# Altium schematic symbol library Altium-IC.SchLib: 158 symbols (part 2 of 2)
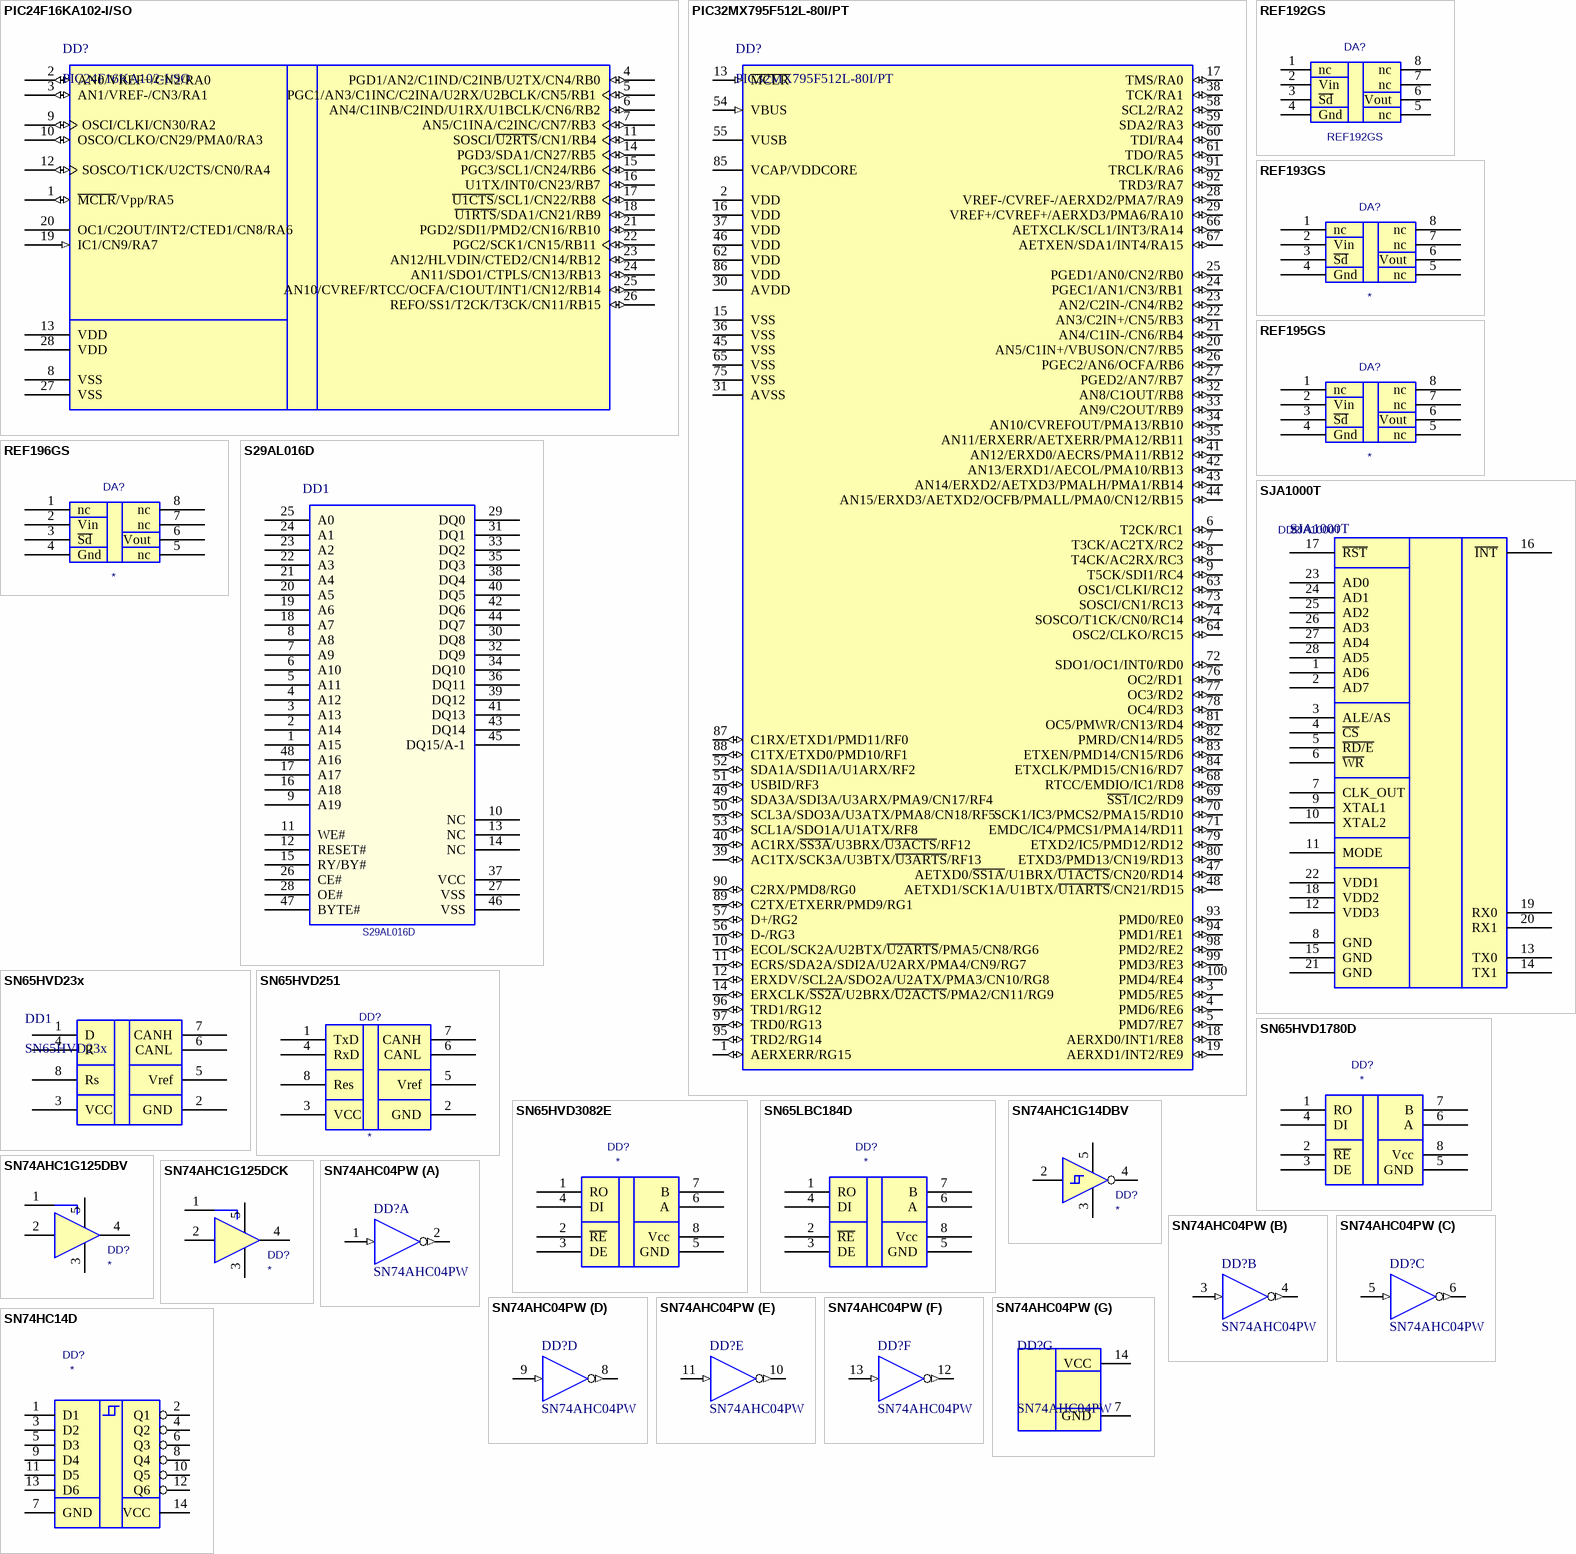
[diagram p11: symbols PIC24F16KA102-I/SO to SN74HC14D]

## PIC32MX795F512L-80I/PT
designator DD?
High Performance 80 MHz MIPS-Based 32-Bit Flash Microcontroller with USB, CAN and Ethernet, 512KB Program Memory, 100-pin TQFP, Industrial Temperature; FirstPublished: 2-Dec-2009; DatasheetVersion: revB, Nov-2009; PackageVersion: revBB, Aug-2009; PackageReference: TQFP-PT100; Publisher: Altium Limited; PackageDescription: 100-Lead Plastic Thin Quad Flatpack (PT) - 12x12x1mm Body, 2.00mm [TQFP]; Supplier 1: Digi-Key; Supplier Part Number 1: PIC32MX795F512L-80I/PT-ND; Supplier 2: Newark; Supplier Part Number 2: 25R8419; ComponentLink1Description: Datasheet; ComponentLink1URL: http://ww1.microchip.com/downloads/en/DeviceDoc/DS-61156B.pdf; ComponentLink2Description: Packaging Specification; ComponentLink2URL: http://ww1.microchip.com/downloads/en/PackagingSpec/en012702.pdf; ComponentLink3Description: Microchip.com Home; ComponentLink3URL: http://www.microchip.com/; Value: PIC32MX795F512L-80I/PT
footprint TQFP-PT100_N (Thin QFP, 100-Leads, Body 12x12mm, Pitch 0.4mm, IPC Medium Density)
footprint TQFP-PT100_L (Thin QFP, 100-Leads, Body 12x12mm, Pitch 0.4mm, IPC High Density)
pins: 1 AERXERR/RG15 (io), 2 VDD (power), 3 PMD5/RE5 (io), 4 PMD6/RE6 (io), 5 PMD7/RE7 (io), 6 T2CK/RC1 (io), 7 T3CK/AC2TX/RC2 (io), 8 T4CK/AC2RX/RC3 (io), 9 T5CK/SDI1/RC4 (io), 10 ECOL/SCK2A/U2BTX/~{U2ARTS}/PMA5/CN8/RG6 (io), 11 ECRS/SDA2A/SDI2A/U2ARX/PMA4/CN9/RG7 (io), 12 ERXDV/SCL2A/SDO2A/U2ATX/PMA3/CN10/RG8 (io), 13 ~{MCLR} (in), 14 ERXCLK/~{SS2A}/U2BRX/~{U2ACTS}/PMA2/CN11/RG9 (io), 15 VSS (power), 16 VDD (power), 17 TMS/RA0 (io), 18 AERXD0/INT1/RE8 (io), 19 AERXD1/INT2/RE9 (io), 20 AN5/C1IN+/VBUSON/CN7/RB5 (io), 21 AN4/C1IN-/CN6/RB4 (io), 22 AN3/C2IN+/CN5/RB3 (io), 23 AN2/C2IN-/CN4/RB2 (io), 24 PGEC1/AN1/CN3/RB1 (io), 25 PGED1/AN0/CN2/RB0 (io), 26 PGEC2/AN6/OCFA/RB6 (io), 27 PGED2/AN7/RB7 (io), 28 VREF-/CVREF-/AERXD2/PMA7/RA9 (io), 29 VREF+/CVREF+/AERXD3/PMA6/RA10 (io), 30 AVDD (power), 31 AVSS (power), 32 AN8/C1OUT/RB8 (io), 33 AN9/C2OUT/RB9 (io), 34 AN10/CVREFOUT/PMA13/RB10 (io), 35 AN11/ERXERR/AETXERR/PMA12/RB11 (io), 36 VSS (power), 37 VDD (power), 38 TCK/RA1 (io), 39 AC1TX/SCK3A/U3BTX/~{U3ARTS}/RF13 (io), 40 AC1RX/~{SS3A}/U3BRX/~{U3ACTS}/RF12 (io), 41 AN12/ERXD0/AECRS/PMA11/RB12 (io), 42 AN13/ERXD1/AECOL/PMA10/RB13 (io), 43 AN14/ERXD2/AETXD3/PMALH/PMA1/RB14 (io), 44 AN15/ERXD3/AETXD2/OCFB/PMALL/PMA0/CN12/RB15 (io), 45 VSS (power), 46 VDD (power), 47 AETXD0/~{SS1A}/U1BRX/~{U1ACTS}/CN20/RD14 (io), 48 AETXD1/SCK1A/U1BTX/~{U1ARTS}/CN21/RD15 (io), 49 SDA3A/SDI3A/U3ARX/PMA9/CN17/RF4 (io), 50 SCL3A/SDO3A/U3ATX/PMA8/CN18/RF5 (io), 51 USBID/RF3 (io), 52 SDA1A/SDI1A/U1ARX/RF2 (io), 53 SCL1A/SDO1A/U1ATX/RF8 (io), 54 VBUS (in), 55 VUSB (power), 56 D-/RG3 (io), 57 D+/RG2 (io), 58 SCL2/RA2 (io), 59 SDA2/RA3 (io), 60 TDI/RA4 (io), 61 TDO/RA5 (io), 62 VDD (power), 63 OSC1/CLKI/RC12 (io), 64 OSC2/CLKO/RC15 (io), 65 VSS (power), 66 AETXCLK/SCL1/INT3/RA14 (io), 67 AETXEN/SDA1/INT4/RA15 (io), 68 RTCC/EMDIO/IC1/RD8 (io), 69 ~{SS1}/IC2/RD9 (io), 70 SCK1/IC3/PMCS2/PMA15/RD10 (io), 71 EMDC/IC4/PMCS1/PMA14/RD11 (io), 72 SDO1/OC1/INT0/RD0 (io), 73 SOSCI/CN1/RC13 (io), 74 SOSCO/T1CK/CN0/RC14 (io), 75 VSS (power), 76 OC2/RD1 (io), 77 OC3/RD2 (io), 78 OC4/RD3 (io), 79 ETXD2/IC5/PMD12/RD12 (io), 80 ETXD3/PMD13/CN19/RD13 (io), 81 OC5/PMWR/CN13/RD4 (io), 82 PMRD/CN14/RD5 (io), 83 ETXEN/PMD14/CN15/RD6 (io), 84 ETXCLK/PMD15/CN16/RD7 (io), 85 VCAP/VDDCORE (power), 86 VDD (power), 87 C1RX/ETXD1/PMD11/RF0 (io), 88 C1TX/ETXD0/PMD10/RF1 (io), 89 C2TX/ETXERR/PMD9/RG1 (io), 90 C2RX/PMD8/RG0 (io), 91 TRCLK/RA6 (io), 92 TRD3/RA7 (io), 93 PMD0/RE0 (io), 94 PMD1/RE1 (io), 95 TRD2/RG14 (io), 96 TRD1/RG12 (io), 97 TRD0/RG13 (io), 98 PMD2/RE2 (io), 99 PMD3/RE3 (io), 100 PMD4/RE4 (io)

## REF192GS
designator DA?
Precision Micropower,  Low Dropout Voltage References; Value: REF192GS
footprint SO8
pins: 1 nc, 2 Vin, 3 ~{Sd}, 4 Gnd, 5 nc, 6 Vout, 7 nc, 8 nc

## REF193GS
designator DA?
REF193GS; Value: *
footprint SO8
pins: 1 nc, 2 Vin, 3 ~{Sd}, 4 Gnd, 5 nc, 6 Vout, 7 nc, 8 nc

## REF195GS
designator DA?
REF195GS; Value: *
footprint SO8
pins: 1 nc, 2 Vin, 3 ~{Sd}, 4 Gnd, 5 nc, 6 Vout, 7 nc, 8 nc

## REF196GS
designator DA?
Reference voltage 3.3v; Value: *
footprint SO8
pins: 1 nc, 2 Vin, 3 ~{Sd}, 4 Gnd, 5 nc, 6 Vout, 7 nc, 8 nc

## S29AL016D
designator DD1
16 Megabit (2 M x 8-Bit/1 M x 16-Bit)   CMOS 3.0 Volt-only Boot Sector Flash Memory; Value: S29AL016D
footprint TSSOP48N (TSSOP, 48-Leads, Body 12,0x18,4mm (max), Pitch 0,50mm, IPC Medium Density)
pins: 1 A15, 2 A14, 3 A13, 4 A12, 5 A11, 6 A10, 7 A9, 8 A8, 9 A19, 10 NC, 11 WE#, 12 RESET#, 13 NC, 14 NC, 15 RY/BY#, 16 A18, 17 A17, 18 A7, 19 A6, 20 A5, 21 A4, 22 A3, 23 A2, 24 A1, 25 A0, 26 CE#, 27 VSS, 28 OE#, 29 DQ0, 30 DQ8, 31 DQ1, 32 DQ9, 33 DQ2, 34 DQ10, 35 DQ3, 36 DQ11, 37 VCC, 38 DQ4, 39 DQ12, 40 DQ5, 41 DQ13, 42 DQ6, 43 DQ14, 44 DQ7, 45 DQ15/A-1, 46 VSS, 47 BYTE#, 48 A16

## SJA1000T
designator DD?
Value: SJA1000T
footprint SOIC127P750-28_N (28-Pin Small Outline Integrated Circuit 1.27 mm Pitch, IPC Medium Density)
pins: 1 AD6, 2 AD7, 3 ALE/AS, 4 ~{CS}, 5 ~{RD/E}, 6 ~{WR}, 7 CLK_OUT, 8 GND, 9 XTAL1, 10 XTAL2, 11 MODE, 12 VDD3, 13 TX0, 14 TX1, 15 GND, 16 ~{INT}, 17 ~{RST}, 18 VDD2, 19 RX0, 20 RX1, 21 GND, 22 VDD1, 23 AD0, 24 AD1, 25 AD2, 26 AD3, 27 AD4, 28 AD5

## SN65HVD23x
designator DD1
3.3-V CAN Bus Transceiver
footprint SO8 (SOIC, 8-Leads, Body 4.9x3.9mm, Pitch 1.27mm, IPC High Density)
pins: 1 D, 2 GND, 3 VCC, 4 R, 5 Vref, 6 CANL, 7 CANH, 8 Rs

## SN65HVD251
designator DD?
SN65HVD251; Value: *
footprint SO8
pins: 1 TxD, 2 GND, 3 VCC, 4 RxD, 5 Vref, 6 CANL, 7 CANH, 8 Res

## SN65HVD1780D
designator DD?
SN65HVD1780DR; Value: *
footprint SO8
pins: 1 RO, 2 ~{RE}, 3 DE, 4 DI, 5 GND, 6 A, 7 B, 8 Vcc

## SN65HVD3082E
designator DD?
SN65HVD3082E; Value: *
footprint SO8
pins: 1 RO, 2 ~{RE}, 3 DE, 4 DI, 5 GND, 6 A, 7 B, 8 Vcc

## SN65LBC184D
designator DD?
SN65LBC184D; Value: *
footprint SO8
pins: 1 RO, 2 ~{RE}, 3 DE, 4 DI, 5 GND, 6 A, 7 B, 8 Vcc

## SN74AHC1G14DBV
designator DD?
Single Schmitt Trigger Inverter Gate
footprint SOT-23-5
pins: 2 A, 3 Gnd, 4 Y, 5 Vcc

## SN74AHC1G125DBV
designator DD?
Single Bus Bufer Gate
footprint SOT-23-5
pins: 1 ~{OE}, 2 A, 3 Gnd, 4 Y, 5 Vcc

## SN74AHC1G125DCK
designator DD?
Single Bus Bufer Gate
footprint SC70-5 (SOT-353/SC-88A; 5 Leads; Body 2.2 x 2.4 mm, inc. leads (LxW max))
pins: 1 ~{OE}, 2 A, 3 Gnd, 4 Y, 5 Vcc

## SN74AHC04PW
designator DD?
Hex Inverter; Value: *
footprint TSSOP14 (TSSOP, 14-Leads, Body 5x4.4mm, Pitch 0.65mm, IPC High Density)
part A pins: 1 A (in), 2 Y (out)
part B pins: 3 A (in), 4 Y (out)
part C pins: 5 A (in), 6 Y (out)
part D pins: 8 Y (out), 9 A (in)
part E pins: 10 Y (out), 11 A (in)
part F pins: 12 Y (out), 13 A (in)
part G pins: 7 GND (power), 14 VCC (power)

## SN74HC14D
designator DD?
Hex inverting Schmitt trigger
footprint SO14
pins: 1 D1, 2 Q1, 3 D2, 4 Q2, 5 D3, 6 Q3, 7 GND, 8 Q4, 9 D4, 10 Q5, 11 D5, 12 Q6, 13 D6, 14 VCC

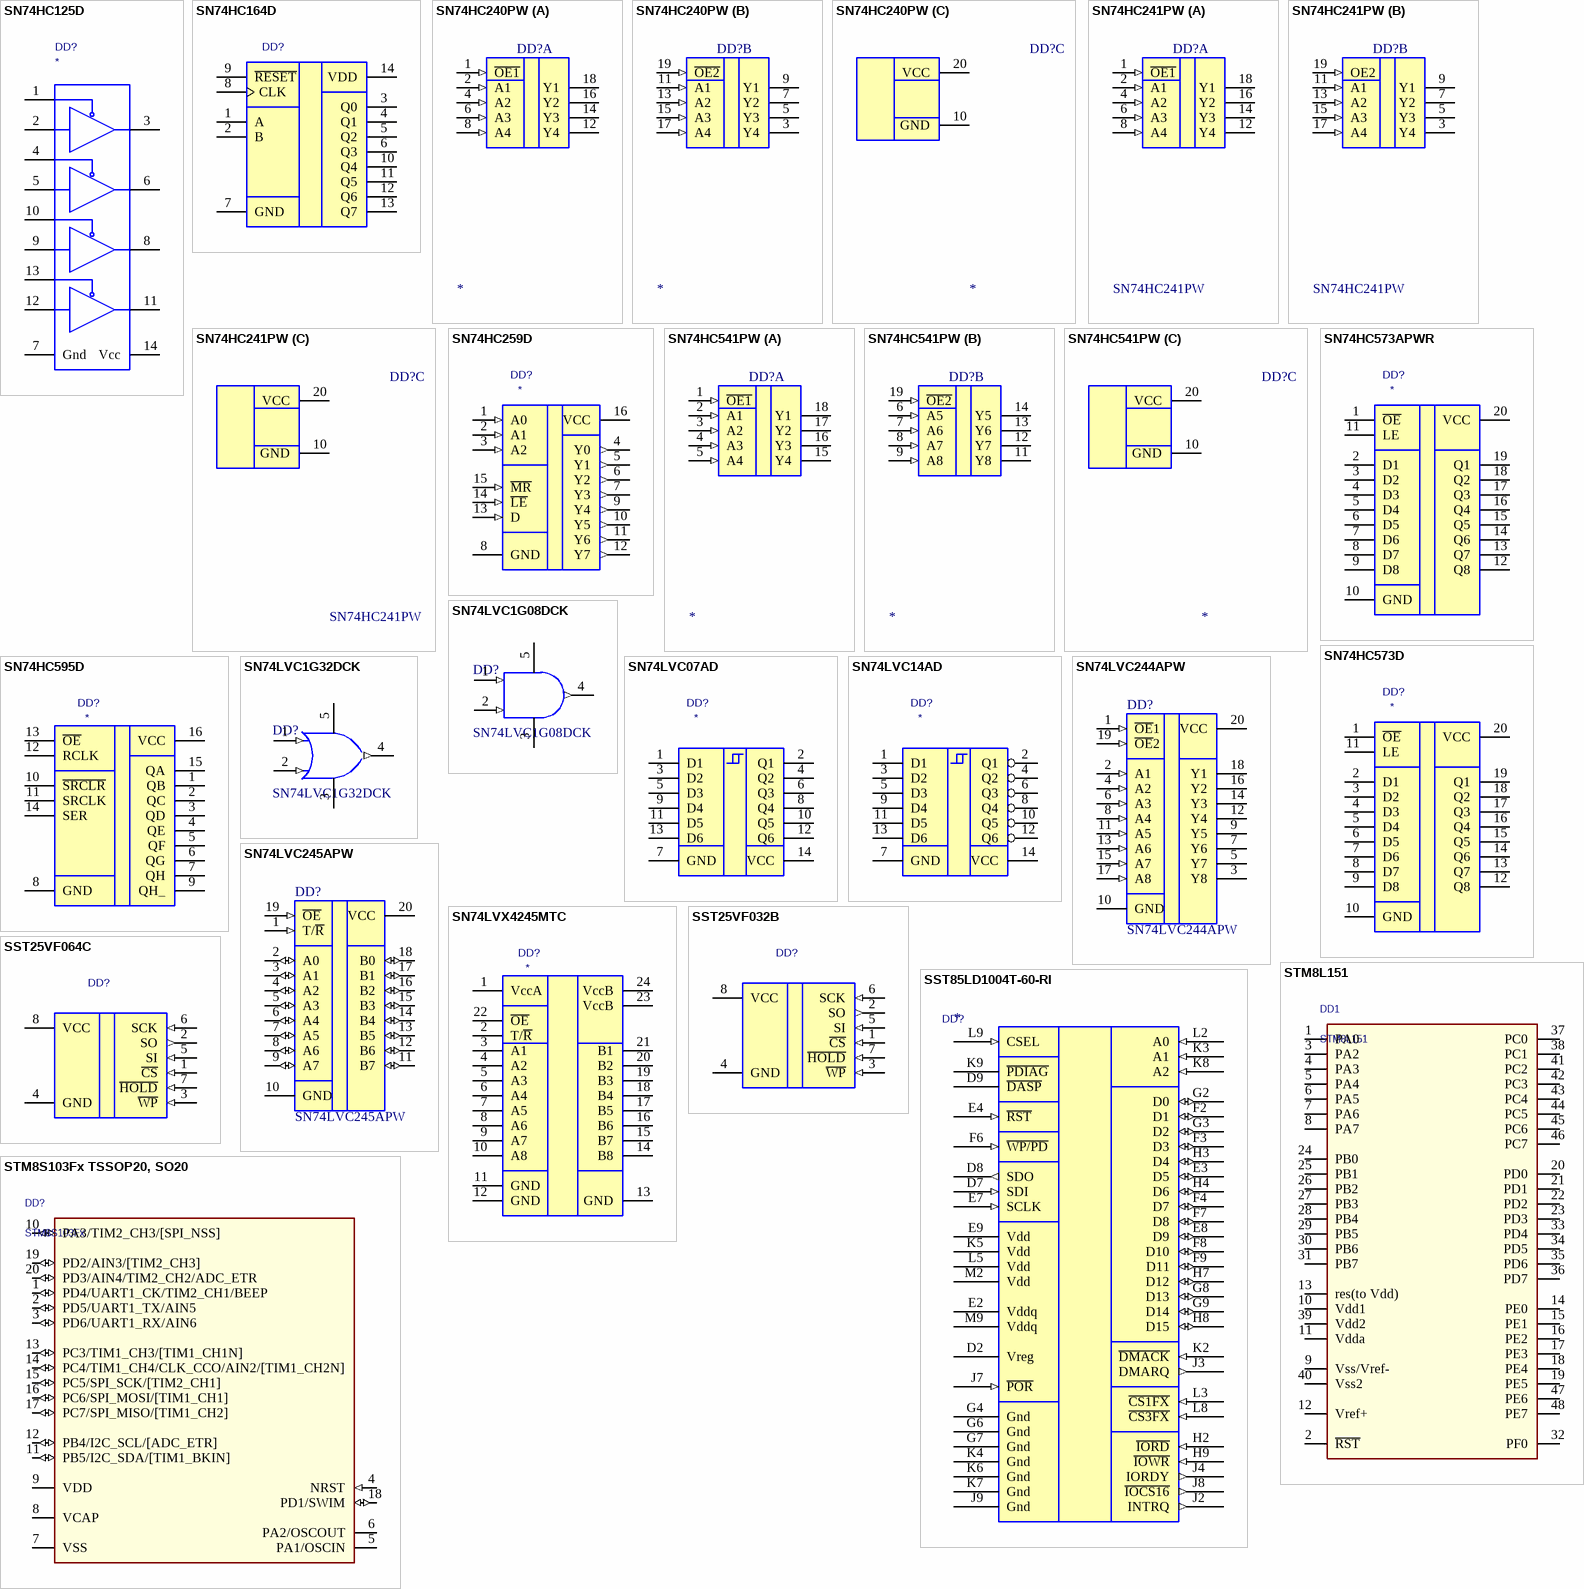
[diagram p8: symbols SN74HC125D to STM8S103Fx TSSOP20, SO20]

## SN74HC125D
designator DD?
SN74HC125D; Value: *
footprint SO14
pins: 1 ~{OE}, 2 A, 3 Y, 4 ~{OE}, 5 A, 6 Y, 7 Gnd, 8 Y, 9 A, 10 ~{OE}, 11 Y, 12 A, 13 ~{OE}, 14 Vcc

## SN74HC164D
designator DD?  (value not drawn)
SN74HC164D; Code_JEDEC: MS-012-AB; Code_IPC: SO14; Value: *
footprint SO14
pins: 1 A, 2 B, 3 Q0, 4 Q1, 5 Q2, 6 Q3, 7 GND, 8 CLK, 9 ~{RESET}, 10 Q4, 11 Q5, 12 Q6, 13 Q7, 14 VDD

## SN74HC240PW
designator DD?
Octal Buffer/Driver with 3-State Outputs
footprint TSSOP20
part A pins: 1 ~{OE1} (in), 2 A1 (in), 4 A2 (in), 6 A3 (in), 8 A4 (in), 12 Y4 (hiz), 14 Y3 (hiz), 16 Y2 (hiz), 18 Y1 (hiz)
part B pins: 3 Y4 (hiz), 5 Y3 (hiz), 7 Y2 (hiz), 9 Y1 (hiz), 11 A1 (in), 13 A2 (in), 15 A3 (in), 17 A4 (in), 19 ~{OE2} (in)
part C pins: 10 GND (power), 20 VCC (power)

## SN74HC241PW
designator DD?
Octal Buffer/Driver with 3-State Outputs; Value: SN74HC241PW
footprint TSSOP20
part A pins: 1 ~{OE1} (in), 2 A1 (in), 4 A2 (in), 6 A3 (in), 8 A4 (in), 12 Y4 (hiz), 14 Y3 (hiz), 16 Y2 (hiz), 18 Y1 (hiz)
part B pins: 3 Y4 (hiz), 5 Y3 (hiz), 7 Y2 (hiz), 9 Y1 (hiz), 11 A1 (in), 13 A2 (in), 15 A3 (in), 17 A4 (in), 19 OE2 (in)
part C pins: 10 GND (power), 20 VCC (power)

## SN74HC259D
designator DD?
SN74HC259D; Value: *
footprint SO-G16
pins: 1 A0 (in), 2 A1 (in), 3 A2 (in), 4 Y0 (out), 5 Y1 (out), 6 Y2 (out), 7 Y3 (out), 8 GND (power), 9 Y4 (out), 10 Y5 (out), 11 Y6 (out), 12 Y7 (out), 13 D (in), 14 ~{LE} (in), 15 ~{MR} (in), 16 VCC (power)

## SN74HC541PW
designator DD?
Octal Buffer/Driver with 3-State Outputs; PackageDescription: 20-Pin Thin Small Outline Package 0.65 mm Pitch; Value: *
footprint TSSOP20
part A pins: 1 ~{OE1} (in), 2 A1 (in), 3 A2 (in), 4 A3 (in), 5 A4 (in), 15 Y4 (hiz), 16 Y3 (hiz), 17 Y2 (hiz), 18 Y1 (hiz)
part B pins: 6 A5 (in), 7 A6 (in), 8 A7 (in), 9 A8 (in), 11 Y8 (hiz), 12 Y7 (hiz), 13 Y6 (hiz), 14 Y5 (hiz), 19 ~{OE2} (in)
part C pins: 10 GND (power), 20 VCC (power)

## SN74HC573APWR
designator DD?
SN74HC573APWR; Value: *; PackageDescription: 20-Pin Thin Small Outline Package 0.65 mm Pitch
footprint TSSOP20
pins: 1 ~{OE}, 2 D1, 3 D2, 4 D3, 5 D4, 6 D5, 7 D6, 8 D7, 9 D8, 10 GND, 11 LE, 12 Q8, 13 Q7, 14 Q6, 15 Q5, 16 Q4, 17 Q3, 18 Q2, 19 Q1, 20 VCC

## SN74HC573D
designator DD?
SN74HC573D; Value: *
pins: 1 ~{OE}, 2 D1, 3 D2, 4 D3, 5 D4, 6 D5, 7 D6, 8 D7, 9 D8, 10 GND, 11 LE, 12 Q8, 13 Q7, 14 Q6, 15 Q5, 16 Q4, 17 Q3, 18 Q2, 19 Q1, 20 VCC

## SN74HC595D
designator DD?
SN74HC595D; Value: *
footprint SO-G16
pins: 1 QB, 2 QC, 3 QD, 4 QE, 5 QF, 6 QG, 7 QH, 8 GND, 9 QH_, 10 ~{SRCLR}, 11 SRCLK, 12 RCLK, 13 ~{OE}, 14 SER, 15 QA, 16 VCC

## SN74LVC1G08DCK
designator DD?
Single 2-Input Positive-AND Gate
footprint SC70-5 (SOT-353/SC-88A; 5 Leads; Body 2.2 x 2.4 mm, inc. leads (LxW max))
pins: 1 A (in), 2 B (in), 3 Gnd (power), 4 Y (out), 5 Vcc (power)

## SN74LVC1G32DCK
designator DD?
Single 2-Input Positive-OR Gate
footprint SC70-5 (SOT-353/SC-88A; 5 Leads; Body 2.2 x 2.4 mm, inc. leads (LxW max))
pins: 1 A (in), 2 B (in), 3 Gnd (power), 4 Y (out), 5 Vcc (power)

## SN74LVC07AD
designator DD?
Hex inverting Schmitt trigger, Open collector
footprint SO14
pins: 1 D1, 2 Q1, 3 D2, 4 Q2, 5 D3, 6 Q3, 7 GND, 8 Q4, 9 D4, 10 Q5, 11 D5, 12 Q6, 13 D6, 14 VCC

## SN74LVC14AD
designator DD?
Hex inverting Schmitt trigger
footprint SO14
pins: 1 D1, 2 Q1, 3 D2, 4 Q2, 5 D3, 6 Q3, 7 GND, 8 Q4, 9 D4, 10 Q5, 11 D5, 12 Q6, 13 D6, 14 VCC

## SN74LVC244APW
designator DD?
Octal Buffer/Driver with 3-State Outputs; Value: *
footprint TSSOP20 (TSOP, 20-Leads, Body 6.5x4.4mm, Pitch 0.65mm, IPC High Density)
pins: 1 ~{OE}1 (in), 2 A1 (in), 3 Y8 (hiz), 4 A2 (in), 5 Y7 (hiz), 6 A3 (in), 7 Y6 (hiz), 8 A4 (in), 9 Y5 (hiz), 10 GND (power), 11 A5 (in), 12 Y4 (hiz), 13 A6 (in), 14 Y3 (hiz), 15 A7 (in), 16 Y2 (hiz), 17 A8 (in), 18 Y1 (hiz), 19 ~{OE}2 (in), 20 VCC (power)

## SN74LVC245APW
designator DD?
Octal Bus Transceiver with 3-State Outputs; Value: *
footprint TSSOP20 (TSOP, 20-Leads, Body 6.5x4.4mm, Pitch 0.65mm, IPC High Density)
pins: 1 T/~{R} (in), 2 A0 (io), 3 A1 (io), 4 A2 (io), 5 A3 (io), 6 A4 (io), 7 A5 (io), 8 A6 (io), 9 A7 (io), 10 GND (power), 11 B7 (io), 12 B6 (io), 13 B5 (io), 14 B4 (io), 15 B3 (io), 16 B2 (io), 17 B1 (io), 18 B0 (io), 19 ~{OE} (in), 20 VCC (power)

## SN74LVX4245MTC
designator DD?
SN74LVX4245MTC; Value: *
footprint TSSOP24
pins: 1 VccA, 2 T/~{R}, 3 A1, 4 A2, 5 A3, 6 A4, 7 A5, 8 A6, 9 A7, 10 A8, 11 GND, 12 GND, 13 GND, 14 B8, 15 B7, 16 B6, 17 B5, 18 B4, 19 B3, 20 B2, 21 B1, 22 ~{OE}, 23 VccB, 24 VccB

## SST25VF032B
designator DD?  (value not drawn)
32 Mbit SPI Serial Flash; Value: *
footprint SO8-2_L (8-Pin Small Outline Package 200mil, 1.27 mm Pitch, IPC High Density)
footprint SO8_2_N (8-Pin Small Outline Package 200mil, 1.27 mm Pitch, IPC Medium Density)
pins: 1 ~{CS} (in), 2 SO (out), 3 ~{WP} (in), 4 GND (power), 5 SI (in), 6 SCK (in), 7 ~{HOLD} (in), 8 VCC (power)

## SST25VF064C
designator DD?  (value not drawn)
64 Mbit SPI Serial Flash; Value: *
footprint SO8-2_L (8-Pin Small Outline Package 200mil, 1.27 mm Pitch, IPC High Density)
footprint SO8_2_N (8-Pin Small Outline Package 200mil, 1.27 mm Pitch, IPC Medium Density)
pins: 1 ~{CS} (in), 2 SO (out), 3 ~{WP} (in), 4 GND (power), 5 SI (in), 6 SCK (in), 7 ~{HOLD} (in), 8 VCC (power)

## SST85LD1004T-60-RI
designator DD?
4 GByte NANDrive with ATA/IDE Bus Interface; Value: *
footprint LBGA100P12X24-91 (Low Profile BGA, 91-Leads, Body 12x24mm, Pitch 1mm)
pins: D2 Vreg (power), D7 SDI (in), D8 SDO (out), D9 ~{DASP}, E2 Vddq (power), E3 D5 (io), E4 ~{RST} (in), E7 SCLK (in), E8 D9 (io), E9 Vdd (power), F2 D1 (io), F3 D3 (io), F4 D7 (io), F6 ~{WP/PD} (in), F7 D8 (io), F8 D10 (io), F9 D11 (io), G2 D0 (io), G3 D2 (io), G4 Gnd (power), G6 Gnd (power), G7 Gnd (power), G8 D13 (io), G9 D14 (io), H2 ~{IORD} (in), H3 D4 (io), H4 D6 (io), H7 D12 (io), H8 D15 (io), H9 ~{IOWR} (in), J2 INTRQ (out), J3 DMARQ (out), J4 IORDY (out), J7 ~{POR} (in), J8 ~{IOCS16} (out), J9 Gnd (power), K2 ~{DMACK} (in), K3 A1 (in), K4 Gnd (power), K5 Vdd (power), K6 Gnd (power), K7 Gnd (power), K8 A2 (in), K9 ~{PDIAG}, L2 A0 (in), L3 ~{CS1FX} (in), L5 Vdd (power), L8 ~{CS3FX} (in), L9 CSEL (in), M2 Vdd (power), M9 Vddq (power)

## STM8L151
designator DD1
8-bit microcontroller Low-power
footprint LQFP48_N (Thin QFP, 48-Leads, Body 7x7mm, Pitch 0.5mm, IPC Medium Density)
pins: 1 PA0, 2 ~{RST}, 3 PA2, 4 PA3, 5 PA4, 6 PA5, 7 PA6, 8 PA7, 9 Vss/Vref-, 10 Vdd1, 11 Vdda, 12 Vref+, 13 res(to Vdd), 14 PE0, 15 PE1, 16 PE2, 17 PE3, 18 PE4, 19 PE5, 20 PD0, 21 PD1, 22 PD2, 23 PD3, 24 PB0, 25 PB1, 26 PB2, 27 PB3, 28 PB4, 29 PB5, 30 PB6, 31 PB7, 32 PF0, 33 PD4, 34 PD5, 35 PD6, 36 PD7, 37 PC0, 38 PC1, 39 Vdd2, 40 Vss2, 41 PC2, 42 PC3, 43 PC4, 44 PC5, 45 PC6, 46 PC7, 47 PE6, 48 PE7

## STM8S103Fx TSSOP20, SO20
designator DD?, comment STM8S103Fx
STM8 8-bit microcontroller
footprint TSSOP20 (TSOP, 20-Leads, Body 6.5x4.4mm, Pitch 0.65mm, IPC High Density)
pins: 1 PD4/UART1_CK/TIM2_CH1/BEEP (io), 2 PD5/UART1_TX/AIN5 (io), 3 PD6/UART1_RX/AIN6 (io), 4 NRST (in), 5 PA1/OSCIN, 6 PA2/OSCOUT, 7 VSS (power), 8 VCAP, 9 VDD (power), 10 PA3/TIM2_CH3/[SPI_NSS] (io), 11 PB5/I2C_SDA/[TIM1_BKIN] (io), 12 PB4/I2C_SCL/[ADC_ETR] (io), 13 PC3/TIM1_CH3/[TIM1_CH1N] (io), 14 PC4/TIM1_CH4/CLK_CCO/AIN2/[TIM1_CH2N] (io), 15 PC5/SPI_SCK/[TIM2_CH1] (io), 16 PC6/SPI_MOSI/[TIM1_CH1] (io), 17 PC7/SPI_MISO/[TIM1_CH2] (io), 18 PD1/SWIM (io), 19 PD2/AIN3/[TIM2_CH3] (io), 20 PD3/AIN4/TIM2_CH2/ADC_ETR (io)

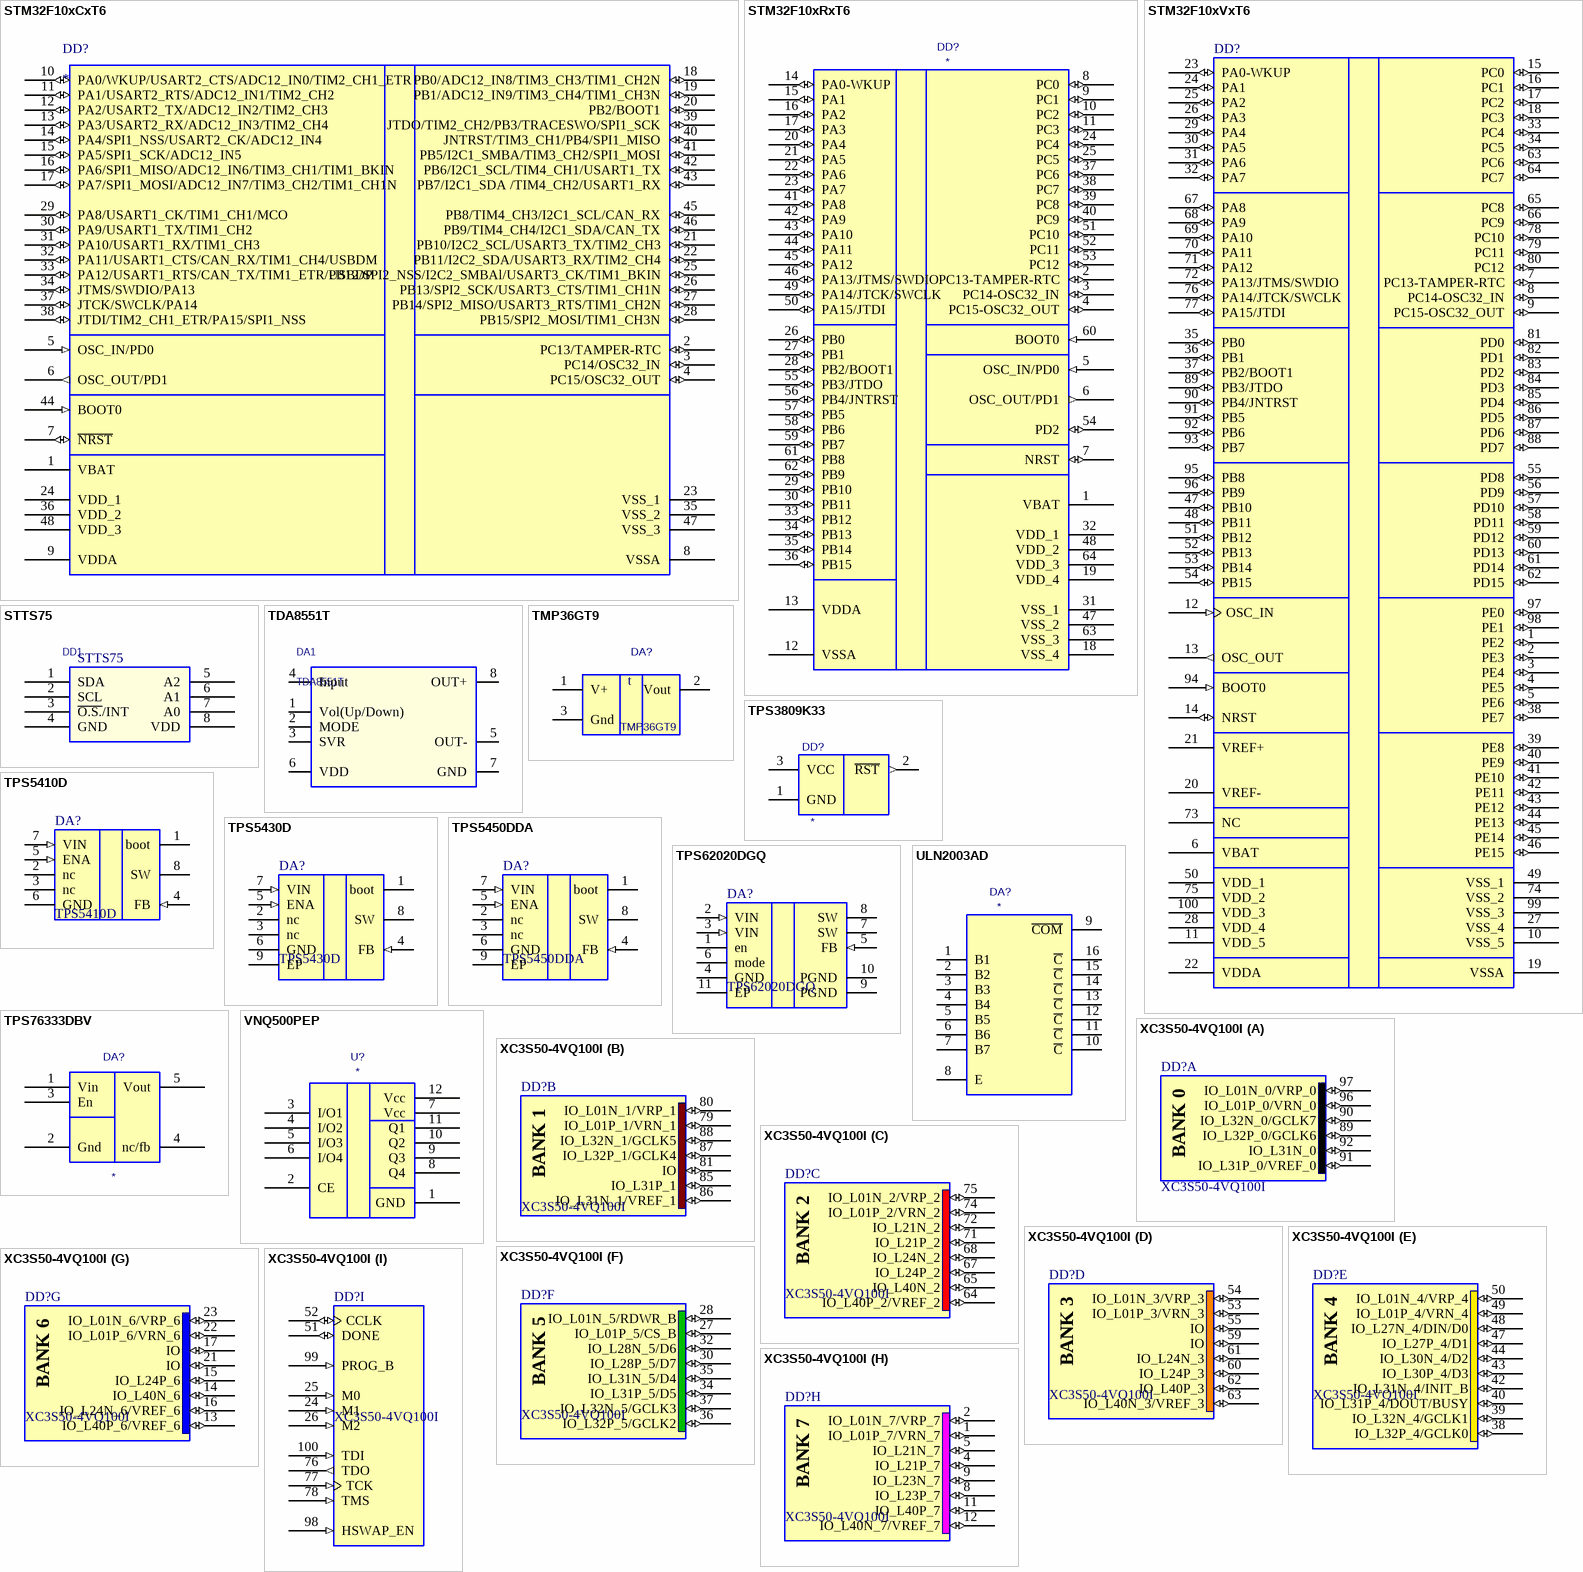
[diagram p9: symbols STM32F10xCxT6 to XC3S50-4VQ100I]

## STM32F10xCxT6
designator DD?
STM32 ARM-based 32-bit MCU, 48-pin LQFP, Industrial Temperature; Value: *
footprint LQFP48_N (Thin QFP, 48-Leads, Body 7x7mm, Pitch 0.5mm, IPC Medium Density)
footprint LQFP48_L (Thin QFP, 48-Leads, Body 7x7mm, Pitch 0.5mm, IPC High Density)
pins: 1 VBAT (power), 2 PC13/TAMPER-RTC (io), 3 PC14/OSC32_IN (io), 4 PC15/OSC32_OUT (io), 5 OSC_IN/PD0 (in), 6 OSC_OUT/PD1 (out), 7 ~{NRST} (io), 8 VSSA (power), 9 VDDA (power), 10 PA0/WKUP/USART2_CTS/ADC12_IN0/TIM2_CH1_ETR (io), 11 PA1/USART2_RTS/ADC12_IN1/TIM2_CH2 (io), 12 PA2/USART2_TX/ADC12_IN2/TIM2_CH3 (io), 13 PA3/USART2_RX/ADC12_IN3/TIM2_CH4 (io), 14 PA4/SPI1_NSS/USART2_CK/ADC12_IN4 (io), 15 PA5/SPI1_SCK/ADC12_IN5 (io), 16 PA6/SPI1_MISO/ADC12_IN6/TIM3_CH1/TIM1_BKIN (io), 17 PA7/SPI1_MOSI/ADC12_IN7/TIM3_CH2/TIM1_CH1N (io), 18 PB0/ADC12_IN8/TIM3_CH3/TIM1_CH2N (io), 19 PB1/ADC12_IN9/TIM3_CH4/TIM1_CH3N (io), 20 PB2/BOOT1 (io), 21 PB10/I2C2_SCL/USART3_TX/TIM2_CH3 (io), 22 PB11/I2C2_SDA/USART3_RX/TIM2_CH4 (io), 23 VSS_1 (power), 24 VDD_1 (power), 25 PB12/SPI2_NSS/I2C2_SMBAl/USART3_CK/TIM1_BKIN (io), 26 PB13/SPI2_SCK/USART3_CTS/TIM1_CH1N (io), 27 PB14/SPI2_MISO/USART3_RTS/TIM1_CH2N (io), 28 PB15/SPI2_MOSI/TIM1_CH3N (io), 29 PA8/USART1_CK/TIM1_CH1/MCO (io), 30 PA9/USART1_TX/TIM1_CH2 (io), 31 PA10/USART1_RX/TIM1_CH3 (io), 32 PA11/USART1_CTS/CAN_RX/TIM1_CH4/USBDM (io), 33 PA12/USART1_RTS/CAN_TX/TIM1_ETR/USBDP (io), 34 JTMS/SWDIO/PA13 (io), 35 VSS_2 (power), 36 VDD_2 (power), 37 JTCK/SWCLK/PA14 (io), 38 JTDI/TIM2_CH1_ETR/PA15/SPI1_NSS (io), 39 JTDO/TIM2_CH2/PB3/TRACESWO/SPI1_SCK (io), 40 JNTRST/TIM3_CH1/PB4/SPI1_MISO (io), 41 PB5/I2C1_SMBA/TIM3_CH2/SPI1_MOSI (io), 42 PB6/I2C1_SCL/TIM4_CH1/USART1_TX (io), 43 PB7/I2C1_SDA /TIM4_CH2/USART1_RX (io), 44 BOOT0 (in), 45 PB8/TIM4_CH3/I2C1_SCL/CAN_RX (io), 46 PB9/TIM4_CH4/I2C1_SDA/CAN_TX (io), 47 VSS_3 (power), 48 VDD_3 (power)

## STM32F10xRxT6
designator DD?
STM32 ARM-based 32-bit MCU; Value: *
footprint LQFP64_L (Thin QFP, 64-Leads, Body 10x10mm, Pitch 0.5mm, IPC High Density)
pins: 1 VBAT (power), 2 PC13-TAMPER-RTC (io), 3 PC14-OSC32_IN (io), 4 PC15-OSC32_OUT (io), 5 OSC_IN/PD0 (in), 6 OSC_OUT/PD1 (out), 7 NRST (io), 8 PC0 (io), 9 PC1 (io), 10 PC2 (io), 11 PC3 (io), 12 VSSA (power), 13 VDDA (power), 14 PA0-WKUP (io), 15 PA1 (io), 16 PA2 (io), 17 PA3 (io), 18 VSS_4 (power), 19 VDD_4 (power), 20 PA4 (io), 21 PA5 (io), 22 PA6 (io), 23 PA7 (io), 24 PC4 (io), 25 PC5 (io), 26 PB0 (io), 27 PB1 (io), 28 PB2/BOOT1 (io), 29 PB10 (io), 30 PB11 (io), 31 VSS_1 (power), 32 VDD_1 (power), 33 PB12 (io), 34 PB13 (io), 35 PB14 (io), 36 PB15 (io), 37 PC6 (io), 38 PC7 (io), 39 PC8 (io), 40 PC9 (io), 41 PA8 (io), 42 PA9 (io), 43 PA10 (io), 44 PA11 (io), 45 PA12 (io), 46 PA13/JTMS/SWDIO (io), 47 VSS_2 (power), 48 VDD_2 (power), 49 PA14/JTCK/SWCLK (io), 50 PA15/JTDI (io), 51 PC10 (io), 52 PC11 (io), 53 PC12 (io), 54 PD2 (io), 55 PB3/JTDO (io), 56 PB4/JNTRST (io), 57 PB5 (io), 58 PB6 (io), 59 PB7 (io), 60 BOOT0 (in), 61 PB8 (io), 62 PB9 (io), 63 VSS_3 (power), 64 VDD_3 (power)

## STM32F10xVxT6
designator DD?
STM32 ARM-based 32-bit MCU; Value: *
footprint LQFP-100_L (Thin QFP, 100-Leads, Body 14x14mm, Pitch 0.5mm, IPC High Density)
pins: 1 PE2 (io), 2 PE3 (io), 3 PE4 (io), 4 PE5 (io), 5 PE6 (io), 6 VBAT (power), 7 PC13-TAMPER-RTC (io), 8 PC14-OSC32_IN (io), 9 PC15-OSC32_OUT (io), 10 VSS_5 (power), 11 VDD_5 (power), 12 OSC_IN (in), 13 OSC_OUT (out), 14 NRST (io), 15 PC0 (io), 16 PC1 (io), 17 PC2 (io), 18 PC3 (io), 19 VSSA (power), 20 VREF- (power), 21 VREF+ (power), 22 VDDA (power), 23 PA0-WKUP (io), 24 PA1 (io), 25 PA2 (io), 26 PA3 (io), 27 VSS_4 (power), 28 VDD_4 (power), 29 PA4 (io), 30 PA5 (io), 31 PA6 (io), 32 PA7 (io), 33 PC4 (io), 34 PC5 (io), 35 PB0 (io), 36 PB1 (io), 37 PB2/BOOT1 (io), 38 PE7 (io), 39 PE8 (io), 40 PE9 (io), 41 PE10 (io), 42 PE11 (io), 43 PE12 (io), 44 PE13 (io), 45 PE14 (io), 46 PE15 (io), 47 PB10 (io), 48 PB11 (io), 49 VSS_1 (power), 50 VDD_1 (power), 51 PB12 (io), 52 PB13 (io), 53 PB14 (io), 54 PB15 (io), 55 PD8 (io), 56 PD9 (io), 57 PD10 (io), 58 PD11 (io), 59 PD12 (io), 60 PD13 (io), 61 PD14 (io), 62 PD15 (io), 63 PC6 (io), 64 PC7 (io), 65 PC8 (io), 66 PC9 (io), 67 PA8 (io), 68 PA9 (io), 69 PA10 (io), 70 PA11 (io), 71 PA12 (io), 72 PA13/JTMS/SWDIO (io), 73 NC, 74 VSS_2 (power), 75 VDD_2 (power), 76 PA14/JTCK/SWCLK (io), 77 PA15/JTDI (io), 78 PC10 (io), 79 PC11 (io), 80 PC12 (io), 81 PD0 (io), 82 PD1 (io), 83 PD2 (io), 84 PD3 (io), 85 PD4 (io), 86 PD5 (io), 87 PD6 (io), 88 PD7 (io), 89 PB3/JTDO (io), 90 PB4/JNTRST (io), 91 PB5 (io), 92 PB6 (io), 93 PB7 (io), 94 BOOT0 (in), 95 PB8 (io), 96 PB9 (io), 97 PE0 (io), 98 PE1 (io), 99 VSS_3 (power), 100 VDD_3 (power)

## STTS75
designator DD1
Digital temperature sensor and thermal watchdog; Value: STTS75
footprint TSSOP8 (TSOP, 8-Leads, Body 3x3mm, Pitch 0.65mm, IPC High Density)
pins: 1 SDA, 2 SCL, 3 ~{O.S.}/INT, 4 GND, 5 A2, 6 A1, 7 A0, 8 VDD

## TDA8551T
designator DA1
2.7V, 1W BTL audio amplifier
footprint SO8_2_N (8-Pin Small Outline Package 200mil, 1.27 mm Pitch, IPC Medium Density)
pins: 1 Vol(Up/Down), 2 MODE, 3 SVR, 4 Input, 5 OUT-, 6 VDD, 7 GND, 8 OUT+

## TMP36GT9
designator DA?
Low Voltage Temperature Sensors; Value: TMP36GT9
footprint TO-92 (Modifined, 3x1.524mm)
pins: 1 V+, 2 Vout, 3 Gnd
text: t

## TPS3809K33
designator DD?
TPS3809K33; Value: *
footprint SOT-23
pins: 1 GND, 2 ~{RST} (out), 3 VCC

## TPS5410D
designator DA?
Step-Down, Wide Input Range, 1A, Voltage Regulator
footprint SO8
pins: 1 boot, 2 nc, 3 nc, 4 FB (in), 5 ENA (in), 6 GND (power), 7 VIN (in), 8 SW

## TPS5430D
designator DA?
Step-Down, Wide Input Range, 3A, Voltage Regulator
footprint SO8-H (SOIC with Exposed pad, 8-Leads, Body 4.9x3.9mm, Pitch 1.27mm, IPC High Density)
pins: 1 boot, 2 nc, 3 nc, 4 FB (in), 5 ENA (in), 6 GND (power), 7 VIN (in), 8 SW, 9 EP (power)

## TPS5450DDA
designator DA?
Step-Down, Wide Input Range, 5A, Voltage Regulator
footprint SO8-H (SOIC with Exposed pad, 8-Leads, Body 4.9x3.9mm, Pitch 1.27mm, IPC High Density)
pins: 1 boot, 2 nc, 3 nc, 4 FB (in), 5 ENA (in), 6 GND (power), 7 VIN (in), 8 SW, 9 EP (power)

## TPS62020DGQ
designator DA?
600 mA/1.25 MHz HIGH-EFFICIENCY STEP-DOWN CONVERTER; Value: TPS62020DGQ
footprint MSOP10-PP
pins: 1 en, 2 VIN (in), 3 VIN (in), 4 GND (power), 5 FB (in), 6 mode (power), 7 SW, 8 SW, 9 PGND (power), 10 PGND (power), 11 EP (power)

## TPS76333DBV
designator DA?
TPS76333DBV; Value: *
footprint SOT-23-5
pins: 1 Vin, 2 Gnd, 3 En, 4 nc/fb, 5 Vout

## ULN2003AD
designator DA?
ULN2003AD; ComponentLink1URL: *; Value: *
footprint SO-G16
pins: 1 B1, 2 B2, 3 B3, 4 B4, 5 B5, 6 B6, 7 B7, 8 E, 9 ~{COM}, 10 ~{C}, 11 ~{C}, 12 ~{C}, 13 ~{C}, 14 ~{C}, 15 ~{C}, 16 ~{C}

## VNQ500PEP
designator U?
VNQ500PEP; Value: *
footprint PSSO12
pins: 1 GND, 2 CE, 3 I/O1, 4 I/O2, 5 I/O3, 6 I/O4, 7 Vcc, 8 Q4, 9 Q3, 10 Q2, 11 Q1, 12 Vcc

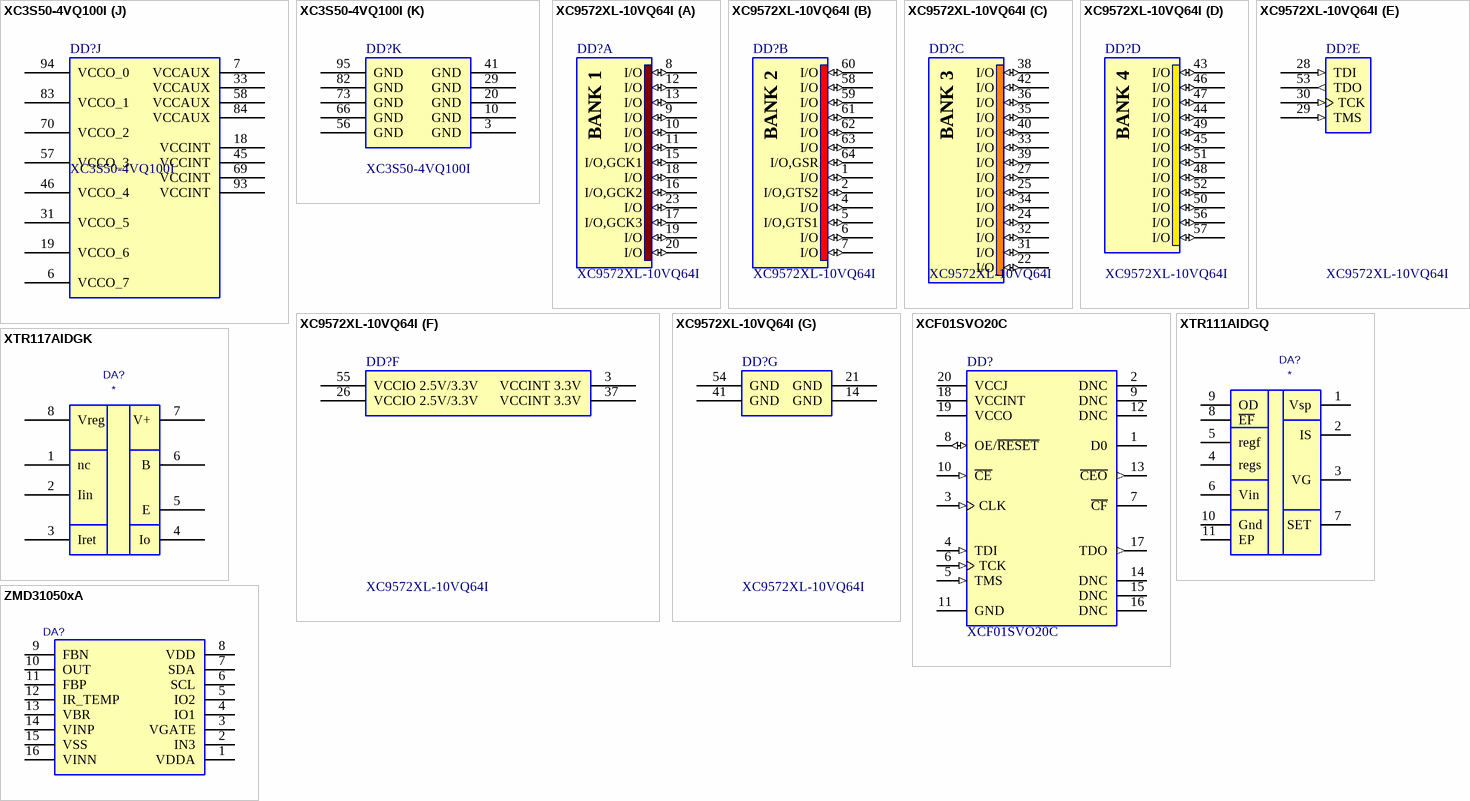
[diagram p10: symbols XC3S50-4VQ100I to ZMD31050xA]

## XC3S50-4VQ100I
designator DD?
Spartan-3 1.2V FPGA, 63 User I/Os, 100-Pin VQFP, Standard Performance, Industrial Grade; Ordering Information: Additional code may have to be appended for different mask revision devices.; Published: 17-Sep-2003; LatestRevisionDate: 13-Apr-2006; LatestRevisionNote: IPC-7351 Footprint Added.; DatasheetVersion: ver2.3, Nov-2007; PackageVersion: ver1.2.1, Feb-2007; PackageReference: VQ100; Publisher: Altium Limited; PackageDescription: 100-Pin Very Thin Quad Flat Pack (VQ100); Code_JEDEC: MS-026-AED; ComponentLink1Description: Manufacturer Link; ComponentLink1URL: http://www.xilinx.com/products/silicon_solutions/fpgas/spartan_series/spartan3_fpgas/index.htm; ComponentLink2Description: Datasheet; ComponentLink2URL: http://direct.xilinx.com/bvdocs/publications/ds099.pdf
footprint VQ100_N (Thin QFP, 100-Leads, Body 14x14mm, Pitch 0.5mm, IPC Medium Density)
signal-integrity model XC3S50_VQ100 (Spartan-3)
part A pins: 89 IO_L32P_0/GCLK6 (io), 90 IO_L32N_0/GCLK7 (io), 91 IO_L31P_0/VREF_0 (io), 92 IO_L31N_0 (io), 96 IO_L01P_0/VRN_0 (io), 97 IO_L01N_0/VRP_0 (io)
part B pins: 79 IO_L01P_1/VRN_1 (io), 80 IO_L01N_1/VRP_1 (io), 81 IO (io), 85 IO_L31P_1 (io), 86 IO_L31N_1/VREF_1 (io), 87 IO_L32P_1/GCLK4 (io), 88 IO_L32N_1/GCLK5 (io)
part C pins: 64 IO_L40P_2/VREF_2 (io), 65 IO_L40N_2 (io), 67 IO_L24P_2 (io), 68 IO_L24N_2 (io), 71 IO_L21P_2 (io), 72 IO_L21N_2 (io), 74 IO_L01P_2/VRN_2 (io), 75 IO_L01N_2/VRP_2 (io)
part D pins: 53 IO_L01P_3/VRN_3 (io), 54 IO_L01N_3/VRP_3 (io), 55 IO (io), 59 IO (io), 60 IO_L24P_3 (io), 61 IO_L24N_3 (io), 62 IO_L40P_3 (io), 63 IO_L40N_3/VREF_3 (io)
part E pins: 38 IO_L32P_4/GCLK0 (io), 39 IO_L32N_4/GCLK1 (io), 40 IO_L31P_4/DOUT/BUSY (io), 42 IO_L31N_4/INIT_B (io), 43 IO_L30P_4/D3 (io), 44 IO_L30N_4/D2 (io), 47 IO_L27P_4/D1 (io), 48 IO_L27N_4/DIN/D0 (io), 49 IO_L01P_4/VRN_4 (io), 50 IO_L01N_4/VRP_4 (io)
part F pins: 27 IO_L01P_5/CS_B (io), 28 IO_L01N_5/RDWR_B (io), 30 IO_L28P_5/D7 (io), 32 IO_L28N_5/D6 (io), 34 IO_L31P_5/D5 (io), 35 IO_L31N_5/D4 (io), 36 IO_L32P_5/GCLK2 (io), 37 IO_L32N_5/GCLK3 (io)
part G pins: 13 IO_L40P_6/VREF_6 (io), 14 IO_L40N_6 (io), 15 IO_L24P_6 (io), 16 IO_L24N_6/VREF_6 (io), 17 IO (io), 21 IO (io), 22 IO_L01P_6/VRN_6 (io), 23 IO_L01N_6/VRP_6 (io)
part H pins: 1 IO_L01P_7/VRN_7 (io), 2 IO_L01N_7/VRP_7 (io), 4 IO_L21P_7 (io), 5 IO_L21N_7 (io), 8 IO_L23P_7 (io), 9 IO_L23N_7 (io), 11 IO_L40P_7 (io), 12 IO_L40N_7/VREF_7 (io)
part I pins: 24 M1 (in), 25 M0 (in), 26 M2 (in), 51 DONE (io), 52 CCLK (io), 76 TDO (out), 77 TCK (in), 78 TMS (in), 98 HSWAP_EN (in), 99 PROG_B (in), 100 TDI (in)
part J pins: 6 VCCO_7 (power), 7 VCCAUX (power), 18 VCCINT (power), 19 VCCO_6 (power), 31 VCCO_5 (power), 33 VCCAUX (power), 45 VCCINT (power), 46 VCCO_4 (power), 57 VCCO_3 (power), 58 VCCAUX (power), 69 VCCINT (power), 70 VCCO_2 (power), 83 VCCO_1 (power), 84 VCCAUX (power), 93 VCCINT (power), 94 VCCO_0 (power)
part K pins: 3 GND (power), 10 GND (power), 20 GND (power), 29 GND (power), 41 GND (power), 56 GND (power), 66 GND (power), 73 GND (power), 82 GND (power), 95 GND (power)
part A text: BANK 0
part B text: BANK 1
part C text: BANK 2
part D text: BANK 3
part E text: BANK 4
part F text: BANK 5
part G text: BANK 6
part H text: BANK 7

## XC9572XL-10VQ64I
designator DD?
FastFLASH XC900XL, 3.3V High-Performance 72 Macrocell CPLD, 52 User I/Os, 64-Pin VQFP, Speed Grade 10, Industrial Grade; FirstPublished: 17-Jul-2002; LatestRevisionDate: 18-Nov-2009; LatestRevisionNote: Updated to datasheet version 2.5 May-2009.; DatasheetVersion: ver2.0 Apr-2007; PackageVersion: ver1.2, Jun-2004; PackageReference: VQ64; Publisher: Altium Limited; PackageDescription: 64-Pin Very Thin Quad Flat Pack (VQ64); Supplier 1: Digi-Key; Supplier Part Number 1: XC9572XL-10VQ64I-ND; Code_JEDEC: MS-026-ACD; ComponentLink1Description: XC9572XL Datasheet; ComponentLink1URL: http://www.xilinx.com/support/documentation/data_sheets/ds057.pdf; ComponentLink2Description: VQ64 Package Drawing; ComponentLink2URL: http://www.xilinx.com/support/documentation/package_specs/vq64.pdf; ComponentLink3Description: XC9500XL Documents; ComponentLink3URL: http://www.xilinx.com/support/documentation/xc9500xl.htm; ComponentLink4Description: Xilinx.com Home; ComponentLink4URL: http://www.xilinx.com
footprint VQ64_L (Thin QFP, 64-Leads, Body 10x10mm, Pitch 0.5mm, IPC High Density)
signal-integrity model XC9572XL_VQ64 (XC9500XL)
part A pins: 8 I/O (io), 9 I/O (io), 10 I/O (io), 11 I/O (io), 12 I/O (io), 13 I/O (io), 15 I/O,GCK1 (io), 16 I/O,GCK2 (io), 17 I/O,GCK3 (io), 18 I/O (io), 19 I/O (io), 20 I/O (io), 23 I/O (io)
part B pins: 1 I/O (io), 2 I/O,GTS2 (io), 4 I/O (io), 5 I/O,GTS1 (io), 6 I/O (io), 7 I/O (io), 58 I/O (io), 59 I/O (io), 60 I/O (io), 61 I/O (io), 62 I/O (io), 63 I/O (io), 64 I/O,GSR (io)
part C pins: 22 I/O (io), 24 I/O (io), 25 I/O (io), 27 I/O (io), 31 I/O (io), 32 I/O (io), 33 I/O (io), 34 I/O (io), 35 I/O (io), 36 I/O (io), 38 I/O (io), 39 I/O (io), 40 I/O (io), 42 I/O (io)
part D pins: 43 I/O (io), 44 I/O (io), 45 I/O (io), 46 I/O (io), 47 I/O (io), 48 I/O (io), 49 I/O (io), 50 I/O (io), 51 I/O (io), 52 I/O (io), 56 I/O (io), 57 I/O (io)
part E pins: 28 TDI (in), 29 TMS (in), 30 TCK (in), 53 TDO (out)
part F pins: 3 VCCINT 3.3V (power), 26 VCCIO 2.5V/3.3V (power), 37 VCCINT 3.3V (power), 55 VCCIO 2.5V/3.3V (power)
part G pins: 14 GND (power), 21 GND (power), 41 GND (power), 54 GND (power)
part A text: BANK 1
part B text: BANK 2
part C text: BANK 3
part D text: BANK 4

## XCF01SVO20C
designator DD?
XCF00S Series, Platform Flash In-System Programmable Configuration 3.3V PROM, 20-Pin TSOP, 1-Megabit, Commercial Grade; Published: 17-Sep-2003; LatestRevisionDate: 04-Mar-2005; LatestRevisionNote: Stylized 3D Model Added.; DatasheetVersion: ver2.9, May-2006; PackageVersion: ver1.2.1, Apr-2005; PackageReference: VO20; Publisher: Altium Limited; PackageDescription: 20-Pin Thin Shrink Small Outline Package (VO20); Code_JEDEC: MO-153-AC; ComponentLink1Description: Manufacturer Link; ComponentLink1URL: http://www.xilinx.com/products/design_resources/config_sol/index.htm; ComponentLink2Description: Datasheet; ComponentLink2URL: http://direct.xilinx.com/bvdocs/publications/ds123.pdf
footprint VO20_N (TSOP, 20-Leads, Body 6.5x4.4mm, Pitch 0.65mm, IPC Medium Density)
pins: 1 D0 (hiz) "Serial Data Output, for configuring an FPGA in serial mode.", 2 DNC "Leave Unconnected.", 3 CLK (in) "Configuration Clock Input.", 4 TDI (in) "JTAG Serial Data Input.", 5 TMS (in) "JTAG Mode Select Input.", 6 TCK (in) "JTAG Test Clock Input.", 7 ~{CF} (oc) "Configuration Pulse (Open-Drain Output).", 8 OE/~{RESET} (io) "Output Enable/Reset (Open-Drain I/O).", 9 DNC "Leave Unconnected.", 10 ~{CE} (in) "Chip Enable Input.", 11 GND (power) "Ground", 12 DNC "Leave Unconnected.", 13 ~{CEO} (out) "Chip Enable Output, connects to the CE input of the next PROM in the chain.", 14 DNC "Leave Unconnected.", 15 DNC "Leave Unconnected.", 16 DNC "Leave Unconnected.", 17 TDO (out) "JTAG Serial Data Output.", 18 VCCINT (power) "+3.3V Supply for internal logic.", 19 VCCO (power) "+3.3V, 2.5V, or 1.8V I/O Supply.", 20 VCCJ (power) "+3.3V or 2.5V JTAG Signals I/O Supply."

## XTR111AIDGQ
designator DA?
Precision Voltage-to-Current  Converter/Transmitter; Value: *
footprint MSOP10-PP
pins: 1 Vsp, 2 IS, 3 VG, 4 regs, 5 regf, 6 Vin, 7 SET, 8 ~{EF}, 9 OD, 10 Gnd, 11 EP

## XTR117AIDGK
designator DA?
XTR117AIDGK; Value: *
footprint TSSOP8 (TSOP, 8-Leads, Body 3x3mm, Pitch 0.65mm, IPC High Density)
pins: 1 nc, 2 Iin, 3 Iret, 4 Io, 5 E, 6 B, 7 V+, 8 Vreg

## ZMD31050xA
designator DA?
Advanced Differential Sensor Signal Conditioner
footprint TSSOP16 (TSSOP, 16-Leads, Body 5x4.4mm, Pitch 0.65mm, IPC High Density)
pins: 1 VDDA, 2 IN3, 3 VGATE, 4 IO1, 5 IO2, 6 SCL, 7 SDA, 8 VDD, 9 FBN, 10 OUT, 11 FBP, 12 IR_TEMP, 13 VBR, 14 VINP, 15 VSS, 16 VINN